# EAGLE library part 7508112512 (library Midcom Inc - EAGLE Lib V2-0)
Package Style: EFD20 Mounting: THT Pins: 10 pins Bobbin: 070-5981 Best pinouts for production vary per application. Please contact Wurth Electronics Midcom, Inc. for assistance with your custom design. Website: Wurth Electronics Midcom <http://www.we-online.com/midcom> Contact us Wurth Electronics Midcom, Inc. 121 Airport Dr. Watertown, SD 57201 Phone: (605) 886-4385 Fax: (605) 886-4486 E-Mail: midcom@we-online.com
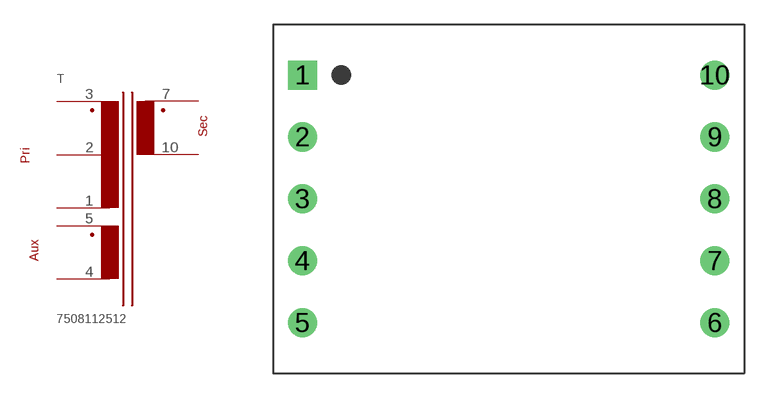
[diagram p234: symbol with the pads of EFD20_THT_H_10PIN_(5981); footprint EFD20_THT_H_10PIN_(5981)]

Designator prefix T

## 7508112512  [EFD20_THT_H_10PIN_(5981)]
1  1  pas
2  2  pas
3  3  pas
4  4  pas
5  5  pas
7  7  pas
10  10  pas

## Footprint EFD20_THT_H_10PIN_(5981) (pad centres in mm)
Package Style: EFD20 Mounting: THT Pins: 10 Bobbin: 070-5981
drill 1.194 square: 1 -12.7,7.62
drill 1.194: 2 -12.7,3.81; 3 -12.7,0; 4 -12.7,-3.81; 5 -12.7,-7.62; 6 12.7,-7.62; 7 12.7,-3.81; 8 12.7,0; 9 12.7,3.81; 10 12.7,7.62